# Altium schematic symbol library INTERFACE-FT230XS-R_SSOP16_.SchLib: 1 symbol
Pins are listed as number, name and electrical type; pins without a type are passive.

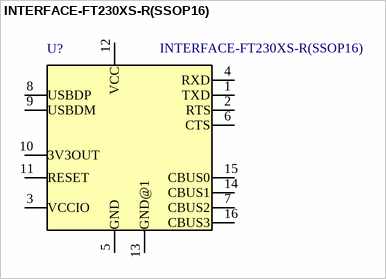
[diagram p0: symbol INTERFACE-FT230XS-R(SSOP16)]

## INTERFACE-FT230XS-R(SSOP16)
designator U?
USB Full Speed to Basic UART IC with USB Charger Detection; MF: FTDI,; MP: FT230XS-R; Availability: Unavailable; Package: SSOP-16 FTDI; Price: None; SnapEDA_Link: https://www.snapeda.com/parts/FT230XS-R/FTDI%2C%20Future%20Technology%20Devices%20International%20Ltd/view-part/?ref=snap; Value: *
footprint *SSOP16-0.635-5X4MM
pins: 1 TXD (io), 2 RTS (io), 3 VCCIO (io), 4 RXD (io), 5 GND (io), 6 CTS (io), 7 CBUS2 (io), 8 USBDP (io), 9 USBDM (io), 10 3V3OUT (io), 11 RESET (io), 12 VCC (io), 13 GND@1 (io), 14 CBUS1 (io), 15 CBUS0 (io), 16 CBUS3 (io)